# Altium schematic symbol library SCH - POWER - MODULE - RECOM - R-78C3.3-1.0.SCHLIB: 1 symbol
Pins are listed as number, name and electrical type; pins without a type are passive.

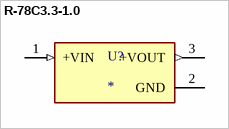
[diagram p0: symbol R-78C3.3-1.0]

## R-78C3.3-1.0
designator U?
1A DC/DC-Converter 'INNOLINE' SIP3 reg
pins: 1 +VIN (in), 2 GND (power), 3 +VOUT (out)